# Altium schematic symbol library RPSLib.SchLib: 241 symbols (part 2 of 8)
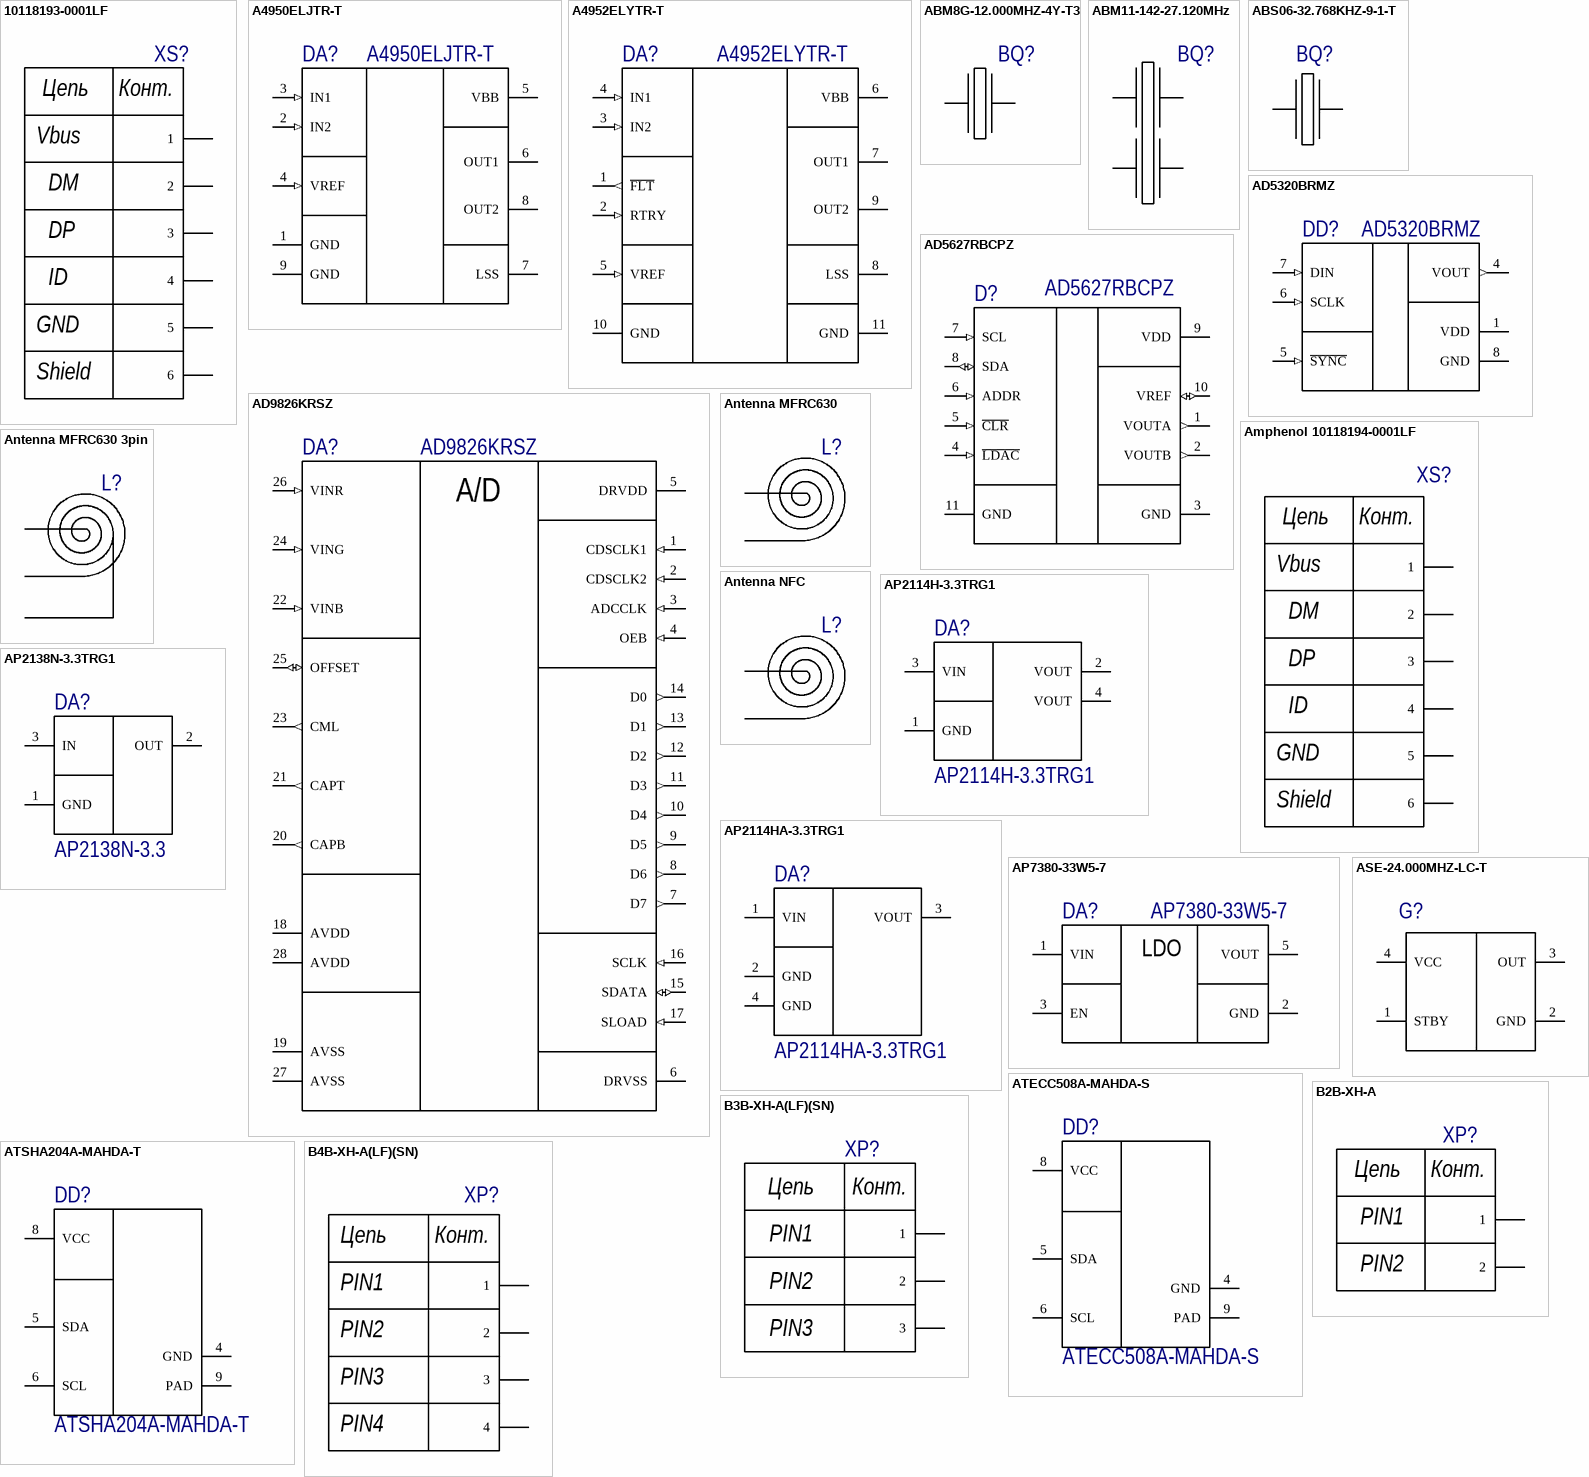
[diagram p26: symbols 10118193-0001LF to B4B-XH-A(LF)(SN)]

## Antenna MFRC630
designator L?, comment Антенна  (value not drawn)  (net tie, no BOM)
footprint MFRC630 Antenna 3x45 (Антенна 3 витка 45 мм)
footprint MFRC630 Antenna 4x45 (Антенна 4 витка 45 мм)
footprint MFRC630 Antenna 5x45 (Антенна 5 витка 45 мм)
footprint MFRC630 Antenna 3x44 circ (Антенна 3 витка 44 мм)
footprint MFRC630 Antenna 4x44 circ (Антенна 4витка 44 мм)
footprint MFRC630 Antenna 5x44 circ (Антенна 5 витков 44 мм)
pins: 1, 2

## Antenna MFRC630 3pin
designator L?, comment Антенна  (value not drawn)  (net tie, no BOM)
footprint MFRC630 Antenna 6x55 circ (Антенна 6 витков 35 мм)
pins: 1, 2, 3

## Antenna NFC
designator L?, comment Антенна  (value not drawn)  (net tie, no BOM)
footprint Antenna 3x40c (Антенна спиральная 3 витка, 40 мм)
footprint Antenna 3x45c (Антенна спиральная 3 витка, 45 мм)
footprint Antenna 4x40c (Антенна спиральная 4 витка, 40 мм)
footprint Antenna 4x45c (Антенна спиральная 4 витка, 45 мм)
footprint Antenna 5x40c (Антенна спиральная 5 витков, 40 мм)
footprint Antenna 5x45c (Антенна спиральная 5 витков, 45 мм)
footprint Antenna 3x40h (Антенна гексагональная 3 витка, 40 мм)
footprint Antenna 3x45h (Антенна гексагональная 3 витка, 45 мм)
footprint Antenna 3x50h (Антенна гексагональная 3 витка, 50 мм)
footprint Antenna 4x40h (Антенна гексагональная 4 витка, 40 мм)
footprint Antenna 4x45h (Антенна гексагональная 4 витка, 45 мм)
footprint Antenna 4x50h (Антенна гексагональная 4 витка, 50 мм)
pins: 1, 2

## AP2114H-3.3TRG1
designator DA?
IC REG LDO 3.3V 1A SOT223; Manufacturer: Diodes; Number of Outputs: 1; Min Input Voltage: 2.5V; Max Input Voltage: 6V; Dropout Voltage: 450mV; Polarity: Positive; Quiescent Current: 65uA; Accuracy: 1.5%; Power Supply Rejection Ratio (PSRR): 65dB; Output Type: Fixed; Supplier 1: Digi-Key; Manufacturer Part Number: AP2114H-3.3TRG1; Stock 1: 59384; Pricing 1: 1=0.36, 10=0.293, 100=0.1994, 500=0.14956, 1000=0.11218 (USD); Mount: Surface Mount; Case/Package: SOT-223; Number of Pins: 3; Weight: 0.000282oz; Min Operating Temperature: -40°C; Max Operating Temperature: 85°C; Packaging: Tape and Reel; Output Voltage: 3.3V; Package Quantity: 4000; Output Current: 1A; Number of Regulators: 1; Max Output Current: 1A; Length: 6.7mm; Height: 1.7mm; Width: 3.7mm; Lead Free: Lead Free; Supplier Part Number 1: AP2114H-3.3TRG1DICT-ND; РКД Наименование: *
footprint SOT230P700X180-4N (SOT223, 4-Leads, Body 6,50x7,00mm (avg), Pitch 2,30mm, IPC Medium Density)
pins: 1 GND, 2 VOUT, 3 VIN, 4 VOUT

## AP2114HA-3.3TRG1
designator DA?
IC REG LDO 3.3V 1A SOT223; Manufacturer: Diodes; Dropout Voltage: 450mV; Number of Regulators: 1; Polarity: Positive; Quiescent Current: 90uA; Accuracy: 1.5%; Min Input Voltage: 2.5V; Max Input Voltage: 6V; Output Type: Fixed; Supplier 1: Digi-Key; Manufacturer Part Number: AP2114HA-3.3TRG1; Stock 1: 1692; Pricing 1: 1=0.36, 10=0.293, 100=0.1994, 500=0.14956, 1000=0.11218 (USD); Mount: Surface Mount; Case/Package: TO-261-4; Number of Pins: 3; Contact Plating: Tin; Min Operating Temperature: -40°C; Max Operating Temperature: 85°C; Packaging: Tape and Reel; Package Quantity: 4000; Output Voltage: 3.3V; Output Current: 1A; Max Output Current: 1A; Number of Outputs: 1; Supplier Part Number 1: AP2114HA-3.3TRG1DICT-ND; РКД Наименование: *
footprint SOT230P700X180-4N (SOT223, 4-Leads, Body 6,50x7,00mm (avg), Pitch 2,30mm, IPC Medium Density)
pins: 1 VIN, 2 GND, 3 VOUT, 4 GND

## AP2138N-3.3TRG1
designator DA?, comment AP2138N-3.3
IC REG LINEAR 3.3V 250MA SOT23-3; Manufacturer: Diodes; Manufacturer Part Number: AP2138N-3.3TRG1; Number of Outputs: 1; Min Input Voltage: 2.5V; Max Input Voltage: 6.6V; Dropout Voltage: 400mV; Quiescent Current: 1uA; Polarity: Positive; Accuracy: 2%; Output Type: Fixed; Supplier 1: Digi-Key; RoHS: Yes; Category: Voltage Regulators - Linear; Stock 1: 158339; Pricing 1: 1=0,36000, 10=0,28800, 25=0,26400, 100=0,17790, 250=0,14728, 500=0,13500, 1000=0,10124 (USD); Mount: Surface Mount; Case/Package: SOT-23-3; Number of Pins: 3; Weight: 0.000282oz; Min Operating Temperature: -40°C; Max Operating Temperature: 85°C; Packaging: Tape and Reel; Output Voltage: 3.3V; Package Quantity: 3000; Output Current: 250mA; Number of Regulators: 1; Max Output Current: 250mA; Length: 3.02mm; Height: 1.3mm; Width: 1.7mm; Lead Free: Lead Free; ComponentLink1URL: https://datasheet.ciiva.com/29568/ap2138-9-29568816.pdf?src-supplier=Digi-Key; ComponentLink1Description: https://datasheet.ciiva.com/29568/ap2138-9-29568816.pdf?src-supplier=Digi-Key; ComponentLink2URL: https://datasheet.ciiva.com/30016/ap2138-9-30016777.pdf?src-supplier=Avnet; ComponentLink2Description: https://datasheet.ciiva.com/30016/ap2138-9-30016777.pdf?src-supplier=Avnet; ComponentLink3URL: https://datasheet.ciiva.com/29569/ap2138-9-29569022.pdf?src-supplier=Digi-Key; ComponentLink3Description: https://datasheet.ciiva.com/29569/ap2138-9-29569022.pdf?src-supplier=Digi-Key; ComponentLink4URL: https://datasheet.ciiva.com/29569/ap2138-9-29569023.pdf?src-supplier=Digi-Key; ComponentLink4Description: https://datasheet.ciiva.com/29569/ap2138-9-29569023.pdf?src-supplier=Digi-Key; Supplier Part Number 1: AP2138N-3.3TRG1DICT-ND
footprint SOT95P232X100-3N (SOT23, 3-Leads, Body 2.92x2.32mm, Pitch 0.95mm, IPC Medium Density)
pins: 1 GND (power), 2 OUT (power), 3 IN (power)

## AP7380-33W5-7
designator DA?
IC REG LINEAR 3.3V 150MA SOT25; Manufacturer: Diodes; Output Type: Fixed; Output Configuration: Positive; Number of Regulators: 1; Max Input Voltage: 24V; Dropout Voltage: 1.5V; Quiescent Current: 3uA; Supplier 1: Digi-Key; Manufacturer Part Number: AP7380-33W5-7; RoHS: No; Stock 1: 13904; Pricing 1: 1=0,42000, 10=0,34400, 25=0,31480, 100=0,21240, 250=0,17576, 500=0,16110, 1000=0,12083 (USD); Mount: Surface Mount; Case/Package: SOT-25; Min Operating Temperature: -40°C; Max Operating Temperature: 125°C; Packaging: Cut Tape; Min Output Voltage: 3.3V; Output Current: 150mA; Max Supply Current: 3uA; ComponentLink1URL: https://www.diodes.com/assets/Datasheets/AP7380.pdf?src-supplier=Digi-Key; ComponentLink1Description: https://www.diodes.com/assets/Datasheets/AP7380.pdf?src-supplier=Digi-Key; Supplier Part Number 1: AP7380-33W5-7DICT-ND
footprint SOT95P285X130-5N (SOT23, 5-Leads, Body 2,95x2,85mm, Pitch 0,95mm, IPC Medium Density)
pins: 1 VIN, 2 GND, 3 EN, 5 VOUT
text: LDO

## ASE-24.000MHZ-LC-T
designator G?  (value not drawn)
XTAL OSC XO 24.0000MHZ CMOS SMD; Manufacturer: Abracon; Frequency: 24MHz; Frequency Stability: 50ppm; Load Capacitance: 15pF; Max Supply Voltage: 2.625V; Min Supply Voltage: 2.375V; Max Supply Current: 13mA; Supplier 1: Digi-Key; Stock 1: 46062; Pricing 1: 1=1.39, 10=1.324, 50=1.2936, 100=1.1088, 500=1.078 (USD); Mount: Surface Mount; Case/Package: SMD/SMT; Number of Pins: 4; Min Operating Temperature: -40°C; Max Operating Temperature: 85°C; Packaging: Tape and Reel; Package Quantity: 1000; Termination: SMD/SMT; Length: 3.2mm; Height: 0.047inch; Width: 0.098inch; Depth: 2.5mm; Radiation Hardening: No; Lead Free: Lead Free; REACH SVHC: No SVHC; ComponentLink1URL: http://www.abracon.com/Oscillators/ASEseries.pdf?src-supplier=Newark; ComponentLink1Description: http://www.abracon.com/Oscillators/ASEseries.pdf?src-supplier=Newark; ComponentLink2URL: https://abracon.com/Support/PackageDrawing/Oscillators/ASE.PDF?src-supplier=Digi-Key; ComponentLink2Description: https://abracon.com/Support/PackageDrawing/Oscillators/ASE.PDF?src-supplier=Digi-Key; ComponentLink3URL: https://www.verical.com/server-webapp/html/getDatasheet?partID=719758&src-supplier=Verical; ComponentLink3Description: https://www.verical.com/server-webapp/html/getDatasheet?partID=719758&src-supplier=Verical; Supplier Part Number 1: 535-9566-1-ND; Manufacturer Part Number: ASE-24.000MHZ-LC-T
footprint ASE Abracon
pins: 1 STBY, 2 GND, 3 OUT, 4 VCC

## ATECC508A-MAHDA-S
designator DD?
CUSTSPEC, ECC 10KB - 8LD UDFN GENERIC TWI, 3K T&R Description CUSTSPEC, ECC 10KB - 8LD UDFN GENERIC TWI, 3K T&R; Manufacturer: Microchip / Atmel; Supplier 1: Digi-Key; Manufacturer Part Number: ATECC508A-MAHDA-S; Stock 1: 31288; Pricing 1: 1=0.73, 25=0.7064 (USD); Mount: Surface Mount; Packaging: Tape and Reel; Lead Free: Lead Free; Supplier Part Number 1: ATECC508A-MAHDA-SCT-ND; РКД Наименование: *
footprint SON50P300X60_HS-9N (SON, 8-Leads, Body 2,00x3,00mm, Pitch 0,50mm, Thermal Pad 1,50x1,30mm, IPC Medium Density)
pins: 4 GND, 5 SDA, 6 SCL, 8 VCC, 9 PAD

## ATSHA204A-MAHDA-T
designator DD?
IC CRYPTO 4.5KB I2C 8UDFN Description IC CRYPTO 4.5KB I2C 8UDFN; Manufacturer: Microchip / Atmel; Interface: I2C,Serial; Access Time: 550ns; Max Frequency: 1MHz; Number of Input Lines: 1; Output Current: 4mA; Output Voltage: 400mV; Max Supply Voltage: 6V; Min Supply Voltage: 2V; Operating Supply Voltage: 5.5V; Supplier 1: Digi-Key; Manufacturer Part Number: ATSHA204A-MAHDA-T; Stock 1: 24073; Pricing 1: 1=0.52, 25=0.4636 (USD); Mount: Surface Mount; Number of Pins: 8; Weight: 0.000335oz; Contact Plating: Gold; Min Operating Temperature: -40°C; Max Operating Temperature: 85°C; Package Quantity: 1; Packaging: Tape and Reel; Density: 4.5Kb; Number of Output Lines: 1; Lead Free: Lead Free; Supplier Part Number 1: ATSHA204A-MAHDA-TCT-ND; РКД Наименование: *
footprint SON50P300X60_HS-9N (SON, 8-Leads, Body 2,00x3,00mm, Pitch 0,50mm, Thermal Pad 1,50x1,30mm, IPC Medium Density)
pins: 4 GND, 5 SDA, 6 SCL, 8 VCC, 9 PAD

## B2B-XH-A
designator XP?  (value not drawn)
Разъем 2; Manufacturer: JST; Manufacturer Part Number: B2B-XH-A(LF)(SN); Number of Positions: 2; Connector Type: Male Pin; Contact Resistance: 20mR; Max Current Rating: 3A; Max Voltage Rating (AC): 250V; Insulation Resistance: 1GR; Pitch: 2.5mm; Wire/Cable Gauge: 22AWG; Supplier 1: Digi-Key; Stock 1: 494280; Pricing 1: 1=0.15, 10=0.141, 100=0.0868, 500=0.07182, 1000=0.06284, 5000=0.05387, 10000=0.05237 (USD); Mount: Through Hole; Contact Plating: Copper,Lead,Tin; Colour: Natural; Contact Material: Brass; Housing Material: Polyamide; Housing Colour: White; Min Operating Temperature: -25°C; Max Operating Temperature: 85°C; Termination: Solder; Number of Rows: 1; Packaging: Bulk; Fastening Type: Detent; Orientation: Straight; Current Rating: 3A; Voltage Rating: 250V; Voltage Rating (AC): 250V; Number of Contacts: 2; Max Voltage Rating (DC): 250V; Length: 7.4mm; Depth: 5.75mm; Lead Pitch: 2.5mm; Lead Free: Lead Free; REACH SVHC: No SVHC; Supplier Part Number 1: 455-2247-ND; РКД Наименование: *
footprint B2B-XH-A (2 pin connector)
pins: 1, 2
text: Цепь; Конт.; PIN1; PIN2

## B3B-XH-A(LF)(SN)
designator XP?  (value not drawn)
JST (JAPAN SOLDERLESS TERMINALS) - B3B-XH-A (LF)(SN) - Wire-To-Board Connector, 2.5 mm, 3 Contacts, Header, XH Series, Through Hole, 1 Rows; Connector Type: Male Pin; Current Rating: 3A; Number of Positions: 3; Voltage Rating (AC): 250V; Contact Resistance: 20mR; Gender: Male; Insulation Resistance: 1GR; Pitch: 2.5mm; Wire/Cable Gauge: 22AWG; Supplier 1: Digi-Key; Manufacturer: JST; Manufacturer Part Number: B3B-XH-A(LF)(SN); RoHS: Yes; Category: Headers and Wire Housings; Stock 1: 38304; Pricing 1: 1=0,190000, 10=0,181000, 100=0,111500, 500=0,092280, 1000=0,080750, 5000=0,069210, 10000=0,067290 (USD); Mount: Through Hole; Contact Plating: Tin,Lead,Copper; Contact Material: Brass; Color: Natural; Housing Color: White; Housing Material: Polyamide; Min Operating Temperature: -25°C; Max Operating Temperature: 85°C; Number of Rows: 1; Packaging: Bulk; Termination: Press-Fit; Orientation: Straight; Max Current Rating: 3A; Voltage Rating: 250V; Fastening Type: Detent; Number of Contacts: 3; Max Voltage Rating (AC): 250V; Max Voltage Rating (DC): 250V; Length: 9.9mm; Lead Pitch: 2.5mm; Depth: 5.75mm; Lead Free: Lead Free; REACH SVHC: No SVHC; ComponentLink1URL: https://datasheet.ciiva.com/26894/getdatasheetpartid-640434-26894454.pdf?src-supplier=Verical; ComponentLink1Description: https://datasheet.ciiva.com/26894/getdatasheetpartid-640434-26894454.pdf?src-supplier=Verical; ComponentLink2URL: https://datasheet.ciiva.com/11746/0900766b8082653f-11746520.pdf?src-supplier=RSComponents; ComponentLink2Description: https://datasheet.ciiva.com/11746/0900766b8082653f-11746520.pdf?src-supplier=RSComponents; ComponentLink3URL: https://datasheet.ciiva.com/26894/getdatasheetpartid-440399-26894778.pdf?src-supplier=Verical; ComponentLink3Description: https://datasheet.ciiva.com/26894/getdatasheetpartid-440399-26894778.pdf?src-supplier=Verical; Supplier Part Number 1: 455-2248-ND
footprint B3B-XH-A (JST 3 pin connector XH)
pins: 1, 2, 3
text: Цепь; Конт.; PIN1; PIN2; PIN3

## B4B-XH-A(LF)(SN)
designator XP?
CONN HEADER VERT 4POS 2.5MM; Manufacturer: JST; Manufacturer Part Number: B4B-XH-A(LF)(SN); Current Rating: 3A; Contact Resistance: 20mR; Voltage Rating (AC): 250V; Number of Positions: 4; Insulation Resistance: 1GR; Connector Type: Male Pin; Gender: Male; Wire/Cable Gauge: 22AWG; Supplier 1: Digi-Key; Stock 1: 97651; Pricing 1: 1=0,210000, 10=0,194000, 100=0,134800, 500=0,114060, 1000=0,093330, 5000=0,082960, 10000=0,075180 (USD); RoHS: Yes; Mount: Through Hole; Contact Material: Brass; Contact Plating: Tin,Copper,Lead; Color: Natural; Housing Color: White; Housing Material: Polyamide; Material: Polyamide; Min Operating Temperature: -25°C; Max Operating Temperature: 85°C; Number of Rows: 1; Max Current Rating: 3A; Package Quantity: 500; Packaging: Bulk; Voltage Rating: 250V; Termination: Press-Fit; Max Voltage Rating (AC): 250V; Max Voltage Rating (DC): 250V; Number of Contacts: 4; Orientation: Straight; Length: 12.4mm; Pitch: 2.5mm; Lead Pitch: 2.5mm; Depth: 5.75mm; REACH SVHC: No SVHC; Lead Free: Lead Free; ComponentLink1URL: https://datasheet.ciiva.com/26894/getdatasheetpartid-455616-26894787.pdf?src-supplier=Verical; ComponentLink1Description: https://datasheet.ciiva.com/26894/getdatasheetpartid-455616-26894787.pdf?src-supplier=Verical; ComponentLink2URL: https://datasheet.ciiva.com/26924/getdatasheetpartid-640571-26924035.pdf?src-supplier=Verical; ComponentLink2Description: https://datasheet.ciiva.com/26924/getdatasheetpartid-640571-26924035.pdf?src-supplier=Verical; ComponentLink3URL: https://datasheet.ciiva.com/16203/b4b-xh-alfsn-16203642.pdf?src-supplier=Future+Electronics; ComponentLink3Description: https://datasheet.ciiva.com/16203/b4b-xh-alfsn-16203642.pdf?src-supplier=Future+Electronics; ComponentLink4URL: https://datasheet.ciiva.com/726/exh-726404.pdf?src-supplier=Digi-Key; ComponentLink4Description: https://datasheet.ciiva.com/726/exh-726404.pdf?src-supplier=Digi-Key; Supplier Part Number 1: 455-2249-ND
footprint B4B-XH-A (JST 4 pin connector)
pins: 1, 2, 3, 4
text: Цепь; Конт.; PIN1; PIN2; PIN3; PIN4

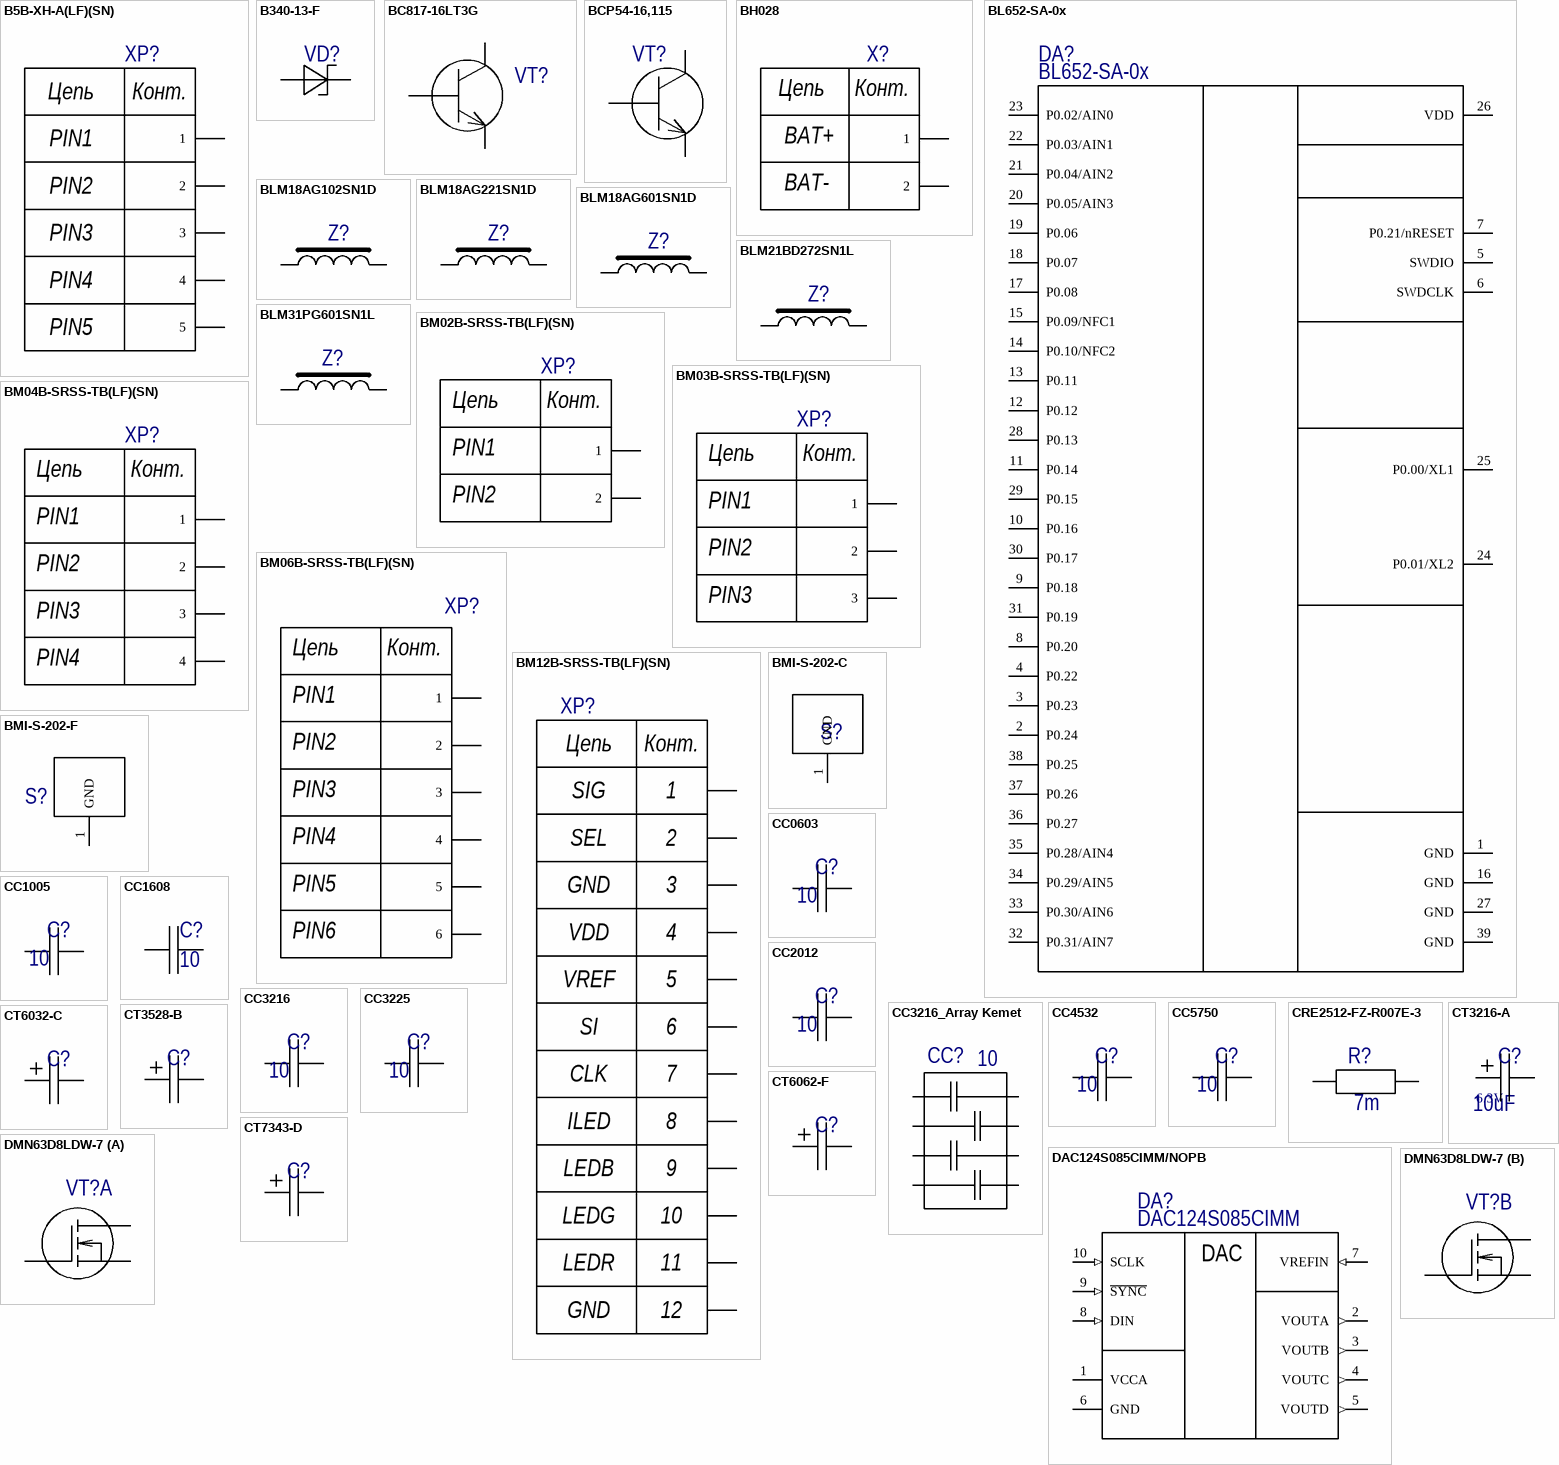
[diagram p2: symbols B5B-XH-A(LF)(SN) to DMN63D8LDW-7]

## B5B-XH-A(LF)(SN)
designator XP?  (value not drawn)
Conn Shrouded Header HDR 5 POS 2.5mm Solder ST Thru-Hole Box; Manufacturer: JST; Current Rating: 3A; Number of Positions: 5; Insulation Resistance: 1GR; Max Voltage Rating (AC): 250V; Gender: Male; Connector Type: Male Pin; Contact Resistance: 20mR; Wire/Cable Gauge: 22AWG; Supplier 1: Digi-Key; Manufacturer Part Number: B5B-XH-A(LF)(SN); RoHS: Yes; Category: Headers and Wire Housings; Stock 1: 87563; Pricing 1: 1=0,250000, 10=0,237000, 100=0,164400, 500=0,139140, 1000=0,113830, 5000=0,101190, 10000=0,091700 (USD); Mount: Through Hole; Contact Material: Brass; Housing Color: White; Housing Material: Polyamide; Color: Natural; Contact Plating: Tin,Lead,Copper; Min Operating Temperature: -25°C; Max Operating Temperature: 85°C; Termination: Press-Fit; Fastening Type: Detent; Number of Contacts: 5; Orientation: Straight; Voltage Rating (AC): 250V; Number of Rows: 1; Packaging: Bulk; Voltage Rating: 250V; Max Current Rating: 3A; Length: 14.9mm; Pitch: 2.5mm; Depth: 5.75mm; Lead Pitch: 2.5mm; REACH SVHC: No SVHC; Lead Free: Lead Free; ComponentLink1URL: https://datasheet.ciiva.com/11746/0900766b8082f55f-11746654.pdf?src-supplier=RSComponents; ComponentLink1Description: https://datasheet.ciiva.com/11746/0900766b8082f55f-11746654.pdf?src-supplier=RSComponents; ComponentLink2URL: https://datasheet.ciiva.com/26894/getdatasheetpartid-455618-26894798.pdf?src-supplier=Verical; ComponentLink2Description: https://datasheet.ciiva.com/26894/getdatasheetpartid-455618-26894798.pdf?src-supplier=Verical; ComponentLink3URL: https://datasheet.ciiva.com/26894/getdatasheetpartid-640991-26894479.pdf?src-supplier=Verical; ComponentLink3Description: https://datasheet.ciiva.com/26894/getdatasheetpartid-640991-26894479.pdf?src-supplier=Verical; ComponentLink4URL: https://datasheet.ciiva.com/724/exh-724390.pdf?src-supplier=Digi-Key; ComponentLink4Description: https://datasheet.ciiva.com/724/exh-724390.pdf?src-supplier=Digi-Key; ComponentLink5URL: https://datasheet.ciiva.com/20207/523653-20207174.pdf?src-supplier=Rapid+Electronics; ComponentLink5Description: https://datasheet.ciiva.com/20207/523653-20207174.pdf?src-supplier=Rapid+Electronics; ComponentLink6URL: https://datasheet.ciiva.com/8052/1684882-8052063.pdf?src-supplier=Element14; ComponentLink6Description: https://datasheet.ciiva.com/8052/1684882-8052063.pdf?src-supplier=Element14; Supplier Part Number 1: 455-2270-ND
footprint B5B-XH-A (JST 5 pin connector XH)
pins: 1, 2, 3, 4, 5
text: Цепь; Конт.; PIN1; PIN2; PIN3; PIN4; PIN5

## B340-13-F
designator VD?  (value not drawn)
Diode Schottky 40V 3A 2-Pin SMC T/R; Manufacturer: Diodes; Element Configuration: Single; Peak Reverse Current: 500uA; Forward Voltage: 500mV; Max Forward Surge Current (Ifsm): 100A; Polarity: Standard; Capacitance: 250pF; Supplier 1: Digi-Key; Manufacturer Part Number: B340-13-F; RoHS: Yes; Category: Rectifier Diodes; Stock 1: 12759; Pricing 1: 1=0,36000, 10=0,29300, 25=0,26840, 100=0,16850, 250=0,16660, 500=0,15600, 1000=0,10608 (USD); Mount: Surface Mount; Case/Package: SMC; Number of Pins: 2; Weight: 0.007408oz; Min Operating Temperature: -55°C; Max Operating Temperature: 125°C; Forward Current: 3A; Max Repetitive Reverse Voltage (Vrrm): 40V; Packaging: Tape and Reel; Peak Non-Repetitive Surge Current: 100A; Package Quantity: 3000; Average Rectified Current: 3A; Voltage Rating (DC): 40V; Current Rating: 3A; Output Current: 3A; Max Reverse Voltage (DC): 40V; Termination: SMD/SMT; Current: 3A; Voltage: 40V; Length: 7.11mm; Height: 2.5mm; Width: 6.22mm; Radiation Hardening: No; Lead Free: Lead Free; REACH SVHC: No SVHC; ComponentLink1URL: https://datasheet.ciiva.com/914/ds30923-914112.pdf?src-supplier=Digi-Key; ComponentLink1Description: https://datasheet.ciiva.com/914/ds30923-914112.pdf?src-supplier=Digi-Key; ComponentLink2URL: https://datasheet.ciiva.com/26949/getdatasheetpartid-116064-26949351.pdf?src-supplier=Verical; ComponentLink2Description: https://datasheet.ciiva.com/26949/getdatasheetpartid-116064-26949351.pdf?src-supplier=Verical; ComponentLink3URL: https://datasheet.ciiva.com/16291/ds13005-16291142.pdf?src-supplier=Future+Electronics; ComponentLink3Description: https://datasheet.ciiva.com/16291/ds13005-16291142.pdf?src-supplier=Future+Electronics; Supplier Part Number 1: B340-FDICT-ND
footprint DIOM6959X25N_SMC (Molded Diode, 2-Leads, Body 6,86x5,91mm, IPC Medium Density)
pins: 1 C, 2 A

## BC817-16LT3G
designator VT?  (value not drawn)
TRANS NPN 45V 0.5A SOT-23; Manufacturer: ON Semiconductor; hFE Min: 100; Max Power Dissipation: 300mW; Element Configuration: Single; Max Collector Current: 500mA; Transition Frequency: 100MHz; Collector Base Voltage (VCBO): 50V; Emitter Base Voltage (VEBO): 5V; Collector Emitter Saturation Voltage: 700mV; Number of Elements: 1; Supplier 1: Digi-Key; Manufacturer Part Number: BC817-16LT3G; RoHS: Yes; Category: BJTs; Stock 1: 34572; Pricing 1: 1=0,14000, 10=0,13000, 25=0,12360, 100=0,05450, 250=0,05228, 500=0,04276, 1000=0,02970, 2500=0,02594, 5000=0,02327 (USD); Case/Package: SOT-23-3; Number of Pins: 3; Contact Plating: Tin,Matte; Min Operating Temperature: -55°C; Max Operating Temperature: 150°C; Package Quantity: 10000; Collector Emitter Voltage (VCEO): 45V; Collector Emitter Breakdown Voltage: 45V; Polarity: NPN; Packaging: Tape and Reel; Power Dissipation: 300mW; Frequency: 100MHz; Gain Bandwidth Product: 100MHz; Max Breakdown Voltage: 45V; Radiation Hardening: No; Lead Free: Lead Free; Halogen Free: Halogen Free; ComponentLink1URL: https://datasheet.ciiva.com/15139/getdatasheetpartid-84401-15139109.pdf?src-supplier=Verical; ComponentLink1Description: https://datasheet.ciiva.com/15139/getdatasheetpartid-84401-15139109.pdf?src-supplier=Verical; ComponentLink2URL: https://datasheet.ciiva.com/26115/bc817-16lt1-d-26115598.pdf?src-supplier=Avnet+Europe; ComponentLink2Description: https://datasheet.ciiva.com/26115/bc817-16lt1-d-26115598.pdf?src-supplier=Avnet+Europe; ComponentLink3URL: https://datasheet.ciiva.com/980/bc817-16lt1-d-980715.pdf?src-supplier=Digi-Key; ComponentLink3Description: https://datasheet.ciiva.com/980/bc817-16lt1-d-980715.pdf?src-supplier=Digi-Key; ComponentLink4URL: https://datasheet.ciiva.com/11204/bc817-16lt1-d-11204335.pdf?src-supplier=Avnet; ComponentLink4Description: https://datasheet.ciiva.com/11204/bc817-16lt1-d-11204335.pdf?src-supplier=Avnet; Supplier Part Number 1: BC817-16LT3GOSCT-ND
footprint SOT95P232X100-3N (SOT23, 3-Leads, Body 2.92x2.32mm, Pitch 0.95mm, IPC Medium Density)
pins: 1 B, 2 E, 3 C

## BCP54-16,115
designator VT?  (value not drawn)
NEXPERIA - BCP54-16,115 - TRANSISTOR, NPN, SOT-223; Supplier 1: Digi-Key; Manufacturer: Nexperia; Manufacturer Part Number: BCP54-16,115; RoHS: No; Stock 1: 4494; Pricing 1: 1=0,45000, 10=0,33600, 25=0,30240, 100=0,15950, 250=0,15784, 500=0,14136 (USD); ComponentLink1URL: http://www.farnell.com/datasheets/1499221.pdf?src-supplier=Farnell; ComponentLink1Description: http://www.farnell.com/datasheets/1499221.pdf?src-supplier=Farnell; Supplier Part Number 1: 1727-4314-1-ND
footprint SOT230P700X180-4N PZT3904 (SOT223, 4-Leads, Body 6,50x7,00mm (avg), Pitch 2,30mm, IPC Medium Density)
pins: 1 B, 2 C, 3 E

## BH028
designator X?  (value not drawn)
Держатель батареи; Manufacturer: JST; Manufacturer Part Number: B2B-XH-A(LF)(SN); Number of Positions: 2; Connector Type: Male Pin; Contact Resistance: 20mR; Max Current Rating: 3A; Max Voltage Rating (AC): 250V; Insulation Resistance: 1GR; Pitch: 2.5mm; Wire/Cable Gauge: 22AWG; Supplier 1: Digi-Key; Stock 1: 494280; Pricing 1: 1=0.15, 10=0.141, 100=0.0868, 500=0.07182, 1000=0.06284, 5000=0.05387, 10000=0.05237 (USD); Mount: Through Hole; Contact Plating: Copper,Lead,Tin; Colour: Natural; Contact Material: Brass; Housing Material: Polyamide; Housing Colour: White; Min Operating Temperature: -25°C; Max Operating Temperature: 85°C; Termination: Solder; Number of Rows: 1; Packaging: Bulk; Fastening Type: Detent; Orientation: Straight; Current Rating: 3A; Voltage Rating: 250V; Voltage Rating (AC): 250V; Number of Contacts: 2; Max Voltage Rating (DC): 250V; Length: 7.4mm; Depth: 5.75mm; Lead Pitch: 2.5mm; Lead Free: Lead Free; REACH SVHC: No SVHC; Supplier Part Number 1: 455-2247-ND; РКД Наименование: *
footprint BH028 (Держатель батареи)
pins: 1, 2
text: Цепь; Конт.; BAT+; BAT-

## BL652-SA-0x
designator DA?
РКД Наименование: *
footprint BL652-Sx
pins: 1 GND, 2 P0.24, 3 P0.23, 4 P0.22, 5 SWDIO, 6 SWDCLK, 7 P0.21/nRESET, 8 P0.20, 9 P0.18, 10 P0.16, 11 P0.14, 12 P0.12, 13 P0.11, 14 P0.10/NFC2, 15 P0.09/NFC1, 16 GND, 17 P0.08, 18 P0.07, 19 P0.06, 20 P0.05/AIN3, 21 P0.04/AIN2, 22 P0.03/AIN1, 23 P0.02/AIN0, 24 P0.01/XL2, 25 P0.00/XL1, 26 VDD, 27 GND, 28 P0.13, 29 P0.15, 30 P0.17, 31 P0.19, 32 P0.31/AIN7, 33 P0.30/AIN6, 34 P0.29/AIN5, 35 P0.28/AIN4, 36 P0.27, 37 P0.26, 38 P0.25, 39 GND

## BLM18AG102SN1D
designator Z?  (value not drawn)
Ferrite Beads Multi-Layer 1KOhm 25% 100MHz 400mA 500mOhm DCR 0603 Paper T/R; Manufacturer: Murata; Impedance: 1kR; DC Resistance (DCR): 500mR; Number of Lines: 1; Shielding: Unshielded; Supplier 1: Digi-Key; Manufacturer Part Number: BLM18AG102SN1D; RoHS: Yes; Category: Ferrite Beads and Chips; Stock 1: 301153; Pricing 1: 1=0,10000, 10=0,07900, 25=0,07200, 50=0,06480, 100=0,04760, 250=0,03460, 500=0,03170, 1000=0,02738 (USD); Case/Package: 0603; Number of Pins: 2; Core Material: Ferrite; Case Code (Metric): 1608; Case Code (Imperial): 0603; Material: Steel,Ferrite; Min Operating Temperature: -55°C; Max Operating Temperature: 125°C; Tolerance: 25%; Max DC Current: 400mA; Package Quantity: 1; Resistance: 500mR; Packaging: Tape and Reel; Current Rating: 400mA; Max Current Rating: 400mA; Termination: SMD/SMT; Test Frequency: 100MHz; DC Current: 400mA; Military Standard: Not; Frequency: 100MHz; Number of Circuits: 1; Length: 1.6mm; Height: 0.8mm; Width: 0.8mm; Depth: 0.8mm; Radiation Hardening: No; REACH SVHC: No SVHC; Lead Free: Lead Free; ComponentLink1URL: https://datasheet.ciiva.com/1012/l0110s0100blm18a-1012016.pdf?src-supplier=Digi-Key; ComponentLink1Description: https://datasheet.ciiva.com/1012/l0110s0100blm18a-1012016.pdf?src-supplier=Digi-Key; ComponentLink2URL: https://datasheet.ciiva.com/5709/1756147-5709056.pdf?src-supplier=Farnell; ComponentLink2Description: https://datasheet.ciiva.com/5709/1756147-5709056.pdf?src-supplier=Farnell; ComponentLink3URL: https://datasheet.ciiva.com/11795/0900766b80032ea2-11795437.pdf?src-supplier=RSComponents; ComponentLink3Description: https://datasheet.ciiva.com/11795/0900766b80032ea2-11795437.pdf?src-supplier=RSComponents; ComponentLink4URL: https://datasheet.ciiva.com/41449/001172220-da-01-en-drossel-0603-1000r-1-6x0-8mm-4000st-41449508.pdf?src-supplier=Conrad; ComponentLink4Description: https://datasheet.ciiva.com/41449/001172220-da-01-en-drossel-0603-1000r-1-6x0-8mm-4000st-41449508.pdf?src-supplier=Conrad; ComponentLink5URL: https://datasheet.ciiva.com/29347/442253-da-01-en-chip-drossel-0603-1000r-400ma-1-6x0-8mm-29347887.pdf?src-supplier=Conrad; ComponentLink5Description: https://datasheet.ciiva.com/29347/442253-da-01-en-chip-drossel-0603-1000r-400ma-1-6x0-8mm-29347887.pdf?src-supplier=Conrad; ComponentLink6URL: https://datasheet.ciiva.com/1466/1756147-1466919.pdf?src-supplier=Element14; ComponentLink6Description: https://datasheet.ciiva.com/1466/1756147-1466919.pdf?src-supplier=Element14; ComponentLink7URL: https://datasheet.ciiva.com/25903/l0110s0100blm18a-25903479.pdf?src-supplier=Avnet+Europe; ComponentLink7Description: https://datasheet.ciiva.com/25903/l0110s0100blm18a-25903479.pdf?src-supplier=Avnet+Europe; ComponentLink8URL: https://datasheet.ciiva.com/1466/1756147-1466920.pdf?src-supplier=Element14; ComponentLink8Description: https://datasheet.ciiva.com/1466/1756147-1466920.pdf?src-supplier=Element14; ComponentLink9URL: https://datasheet.ciiva.com/16199/l0110s0100blm18a-16199225.pdf?src-supplier=Future+Electronics; ComponentLink9Description: https://datasheet.ciiva.com/16199/l0110s0100blm18a-16199225.pdf?src-supplier=Future+Electronics; ComponentLink10URL: https://datasheet.ciiva.com/8510/l0110s0100blm18a-8510154.pdf?src-supplier=Avnet; ComponentLink10Description: https://datasheet.ciiva.com/8510/l0110s0100blm18a-8510154.pdf?src-supplier=Avnet; ComponentLink11URL: https://datasheet.ciiva.com/1012/l0110s0100blm18a-1012014.pdf?src-supplier=Digi-Key; ComponentLink11Description: https://datasheet.ciiva.com/1012/l0110s0100blm18a-1012014.pdf?src-supplier=Digi-Key; ComponentLink12URL: https://datasheet.ciiva.com/1012/l0110s0100blm18a-1012015.pdf?src-supplier=Digi-Key; ComponentLink12Description: https://datasheet.ciiva.com/1012/l0110s0100blm18a-1012015.pdf?src-supplier=Digi-Key; Supplier Part Number 1: 490-1015-1-ND
footprint INDC1608X08N_BLM18AG (Chip Inductor, 2-Leads, Body 1,60x0,80mm, IPC Medium Density)
pins: 1, 2

## BLM18AG221SN1D
designator Z?  (value not drawn)
FERRITE CHIP 220 OHM 500MA 0603; Manufacturer: Murata; Impedance: 220R; Tolerance: 25%; DC Resistance (DCR): 250mR; Number of Lines: 1; Test Frequency: 100MHz; Shielding: Unshielded; РКД Наименование: BLM18AG221SN1D - EMI Filter, 220 Ohm, 1608M; Supplier 1: Digi-Key; Manufacturer Part Number: BLM18AG221SN1D; Stock 1: 104903; Pricing 1: 1=0.1, 10=0.079, 25=0.072, 50=0.0648, 100=0.0476, 250=0.0346, 500=0.0317, 1000=0.02738 (USD); Case/Package: 0603; Number of Pins: 2; Core Material: Ferrite; Case Code (Metric): 1608; Case Code (Imperial): 0603; Material: Steel; Min Operating Temperature: -55°C; Max Operating Temperature: 125°C; Max DC Current: 500mA; Package Quantity: 1; Max Current Rating: 500mA; Packaging: Tape and Reel; Current Rating: 500mA; Termination: SMD/SMT; DC Current: 500mA; Military Standard: Not; Frequency: 100MHz; Number of Circuits: 1; Length: 1.6mm; Height: 0.8mm; Width: 0.8mm; Depth: 0.8mm; Radiation Hardening: No; REACH SVHC: No SVHC; Lead Free: Lead Free; Supplier Part Number 1: 490-1012-1-ND
footprint INDC1608X06N_BLM18SN (Chip Inductor, 2-Leads, Body 1,60x0,80mm, IPC Medium Density)
pins: 1, 2

## BLM18AG601SN1D
designator Z?  (value not drawn)
FERRITE CHIP 600 OHM 500MA 0603; Manufacturer: Murata; Tolerance: 25%; Impedance: 600R; Number of Lines: 1; DC Resistance (DCR): 380mR; Test Frequency: 100MHz; Shielding: Unshielded; Supplier 1: Digi-Key; Manufacturer Part Number: BLM18AG601SN1D; Stock 1: 1068043; Pricing 1: 1=0.1, 10=0.079, 25=0.072, 50=0.0648, 100=0.0476, 250=0.0346, 500=0.0317, 1000=0.02738 (USD); Case/Package: 0603; Number of Pins: 2; Weight: 7.1E-05oz; Core Material: Ferrite; Case Code (Metric): 1608; Case Code (Imperial): 0603; Material: Ferrite,Steel; Min Operating Temperature: -55°C; Max Operating Temperature: 125°C; Package Quantity: 1; Max Current Rating: 500mA; Packaging: Tape and Reel; Current Rating: 500mA; Termination: SMD/SMT; Max DC Current: 500mA; DC Current: 500mA; Military Standard: Not; Frequency: 100MHz; Number of Circuits: 1; Length: 1.6mm; Height: 0.8mm; Width: 0.8mm; Depth: 0.8mm; Radiation Hardening: No; REACH SVHC: No SVHC; Lead Free: Lead Free; ComponentLink1URL: https://www.murata.com/en-us/products/productdata/8796738650142/ENFA0003.pdf; ComponentLink1Description: https://www.murata.com/en-us/products/productdata/8796738650142/ENFA0003.pdf; ComponentLink2URL: http://www.farnell.com/datasheets/1756147.pdf; ComponentLink2Description: http://www.farnell.com/datasheets/1756147.pdf; ComponentLink3URL: http://www.jameco.com/Jameco/Products/ProdDS/1844766.pdf; ComponentLink3Description: http://www.jameco.com/Jameco/Products/ProdDS/1844766.pdf; ComponentLink4URL: http://search.murata.co.jp/Ceramy/image/img/PDF/ENG/L0110S0100BLM18A.pdf; ComponentLink4Description: http://search.murata.co.jp/Ceramy/image/img/PDF/ENG/L0110S0100BLM18A.pdf; ComponentLink5URL: http://www.produktinfo.conrad.com/datenblaetter/425000-449999/442309-da-01-en-CHIP_DROSSEL_0603_600R_500MA_1_6X0_8MM.pdf; ComponentLink5Description: http://www.produktinfo.conrad.com/datenblaetter/425000-449999/442309-da-01-en-CHIP_DROSSEL_0603_600R_500MA_1_6X0_8MM.pdf; ComponentLink6URL: http://www.produktinfo.conrad.com/datenblaetter/1100000-1199999/001172228-da-01-en-DROSSEL_0603_600R_1_6X0_8MM_4000ST.pdf; ComponentLink6Description: http://www.produktinfo.conrad.com/datenblaetter/1100000-1199999/001172228-da-01-en-DROSSEL_0603_600R_1_6X0_8MM_4000ST.pdf; Supplier Part Number 1: 490-1014-1-ND
footprint INDC1608X08N_BLM18AG (Chip Inductor, 2-Leads, Body 1,60x0,80mm, IPC Medium Density)
pins: 1, 2

## BLM21BD272SN1L
designator Z?  (value not drawn)
Murata Ferrite Bead (Chip Bead), 2 x 1.25 x 1.25mm (0805); Impedance: 2.7kR; Tolerance: 25%; DC Resistance (DCR): 800mR; Max DC Current: 200mA; Number of Lines: 1; Test Frequency: 100MHz; Shielding: Unshielded; Supplier 1: Digi-Key; Manufacturer: Murata; Manufacturer Part Number: BLM21BD272SN1L; Stock 1: 74363; Pricing 1: 1=0,19000, 10=0,14600, 25=0,12040, 50=0,10400, 100=0,09360, 250=0,07900, 500=0,07068, 1000=0,06029 (USD); RoHS: Yes; Case/Package: 0805; Number of Pins: 2; Weight: 0.000194oz; Core Material: Ferrite; Case Code (Metric): 2012; Case Code (Imperial): 0805; Material: Steel,Ferrite; Min Operating Temperature: -55°C; Max Operating Temperature: 125°C; Package Quantity: 1; Max Current Rating: 200mA; Packaging: Tape and Reel; Current Rating: 200mA; Termination: SMD/SMT; Frequency: 100MHz; Length: 2mm; Height: 0.85mm; Width: 1.25mm; Depth: 1.25mm; REACH SVHC: No SVHC; Lead Free: Lead Free; ComponentLink1URL: https://datasheet.ciiva.com/34302/1845283-34302806.pdf?src-supplier=Jameco; ComponentLink1Description: https://datasheet.ciiva.com/34302/1845283-34302806.pdf?src-supplier=Jameco; ComponentLink2URL: https://datasheet.ciiva.com/11795/0900766b81275df9-11795726.pdf?src-supplier=RSComponents; ComponentLink2Description: https://datasheet.ciiva.com/11795/0900766b81275df9-11795726.pdf?src-supplier=RSComponents; ComponentLink3URL: https://datasheet.ciiva.com/41449/001171735-da-01-en-chip-drossel0805-2700r-200ma-2-0x1-25mm-41449365.pdf?src-supplier=Conrad; ComponentLink3Description: https://datasheet.ciiva.com/41449/001171735-da-01-en-chip-drossel0805-2700r-200ma-2-0x1-25mm-41449365.pdf?src-supplier=Conrad; ComponentLink4URL: https://datasheet.ciiva.com/41449/001172353-da-01-en-drossel-0805-2700r-2-0x1-25mm-3000st-41449595.pdf?src-supplier=Conrad; ComponentLink4Description: https://datasheet.ciiva.com/41449/001172353-da-01-en-drossel-0805-2700r-2-0x1-25mm-3000st-41449595.pdf?src-supplier=Conrad; ComponentLink5URL: https://datasheet.ciiva.com/1012/l0110s0100blm21b-1012866.pdf?src-supplier=Digi-Key; ComponentLink5Description: https://datasheet.ciiva.com/1012/l0110s0100blm21b-1012866.pdf?src-supplier=Digi-Key; ComponentLink6URL: https://datasheet.ciiva.com/1012/l0110s0100blm21b-1012867.pdf?src-supplier=Digi-Key; ComponentLink6Description: https://datasheet.ciiva.com/1012/l0110s0100blm21b-1012867.pdf?src-supplier=Digi-Key; ComponentLink7URL: https://datasheet.ciiva.com/1012/l0110s0100blm21b-1012868.pdf?src-supplier=Digi-Key; ComponentLink7Description: https://datasheet.ciiva.com/1012/l0110s0100blm21b-1012868.pdf?src-supplier=Digi-Key; ComponentLink8URL: https://datasheet.ciiva.com/3081/l0110s0100blm21b-3081652.pdf?src-supplier=Avnet; ComponentLink8Description: https://datasheet.ciiva.com/3081/l0110s0100blm21b-3081652.pdf?src-supplier=Avnet; ComponentLink9URL: https://datasheet.ciiva.com/14122/amblm21b-data-e-14122853.pdf?src-supplier=Distrelec; ComponentLink9Description: https://datasheet.ciiva.com/14122/amblm21b-data-e-14122853.pdf?src-supplier=Distrelec; ComponentLink10URL: https://datasheet.ciiva.com/8021/5159-8021579.pdf?src-supplier=Element14; ComponentLink10Description: https://datasheet.ciiva.com/8021/5159-8021579.pdf?src-supplier=Element14; ComponentLink11URL: https://datasheet.ciiva.com/17246/l0110s0100blm21b-17246955.pdf?src-supplier=Avnet+Europe; ComponentLink11Description: https://datasheet.ciiva.com/17246/l0110s0100blm21b-17246955.pdf?src-supplier=Avnet+Europe; ComponentLink12URL: https://datasheet.ciiva.com/8021/5159-8021581.pdf?src-supplier=Element14; ComponentLink12Description: https://datasheet.ciiva.com/8021/5159-8021581.pdf?src-supplier=Element14; Supplier Part Number 1: 490-1051-1-ND
footprint INDC2012X14N_BLM21BD272SN1 (Chip Inductor, 2-Leads, Body 2,00x1,25mm, IPC Medium Density)
pins: 1, 2

## BLM31PG601SN1L
designator Z?  (value not drawn)
MURATA - BLM31PG601SN1L - FERRITE BEAD, 600R, 1.5A, 1206; Tolerance: 25%; Number of Lines: 1; DC Resistance (DCR): 80mR; Test Frequency: 100MHz; Shielding: Unshielded; Supplier 1: Digi-Key; Manufacturer: Murata; Manufacturer Part Number: BLM31PG601SN1L; RoHS: Yes; Category: Inductors; Stock 1: 164932; Pricing 1: 1=0,31000, 10=0,24100, 25=0,19920, 50=0,17180, 100=0,15470, 250=0,13064, 500=0,11688, 1000=0,09969 (USD); Case/Package: 1206; Number of Pins: 2; Weight: 0.000353oz; Core Material: Ferrite; Case Code (Metric): 3216; Case Code (Imperial): 1206; Material: Steel,Ferrite; Contact Plating: Tin,Matte; Min Operating Temperature: -55°C; Max Operating Temperature: 125°C; Impedance: 600R; Package Quantity: 1; Max Current Rating: 1.5A; Packaging: Tape and Reel; Current Rating: 1.5A; Termination: SMD/SMT; Max DC Current: 1.5A; DC Current: 1.5A; Military Standard: Not; Frequency: 100MHz; Length: 3.2mm; Height: 1.1mm; Width: 1.6mm; Depth: 1.6mm; Radiation Hardening: No; Lead Free: Lead Free; ComponentLink1URL: https://datasheet.ciiva.com/11799/0900766b811b5866-11799751.pdf?src-supplier=RSComponents; ComponentLink1Description: https://datasheet.ciiva.com/11799/0900766b811b5866-11799751.pdf?src-supplier=RSComponents; ComponentLink2URL: https://datasheet.ciiva.com/41449/001172387-da-01-en-drossel-1206-600r-3-2x1-60mm-3000st-41449555.pdf?src-supplier=Conrad; ComponentLink2Description: https://datasheet.ciiva.com/41449/001172387-da-01-en-drossel-1206-600r-3-2x1-60mm-3000st-41449555.pdf?src-supplier=Conrad; ComponentLink3URL: https://datasheet.ciiva.com/29348/442583-da-01-en-chip-drossel-1206-600r-1500ma-3-2x1-60mm-29348020.pdf?src-supplier=Conrad; ComponentLink3Description: https://datasheet.ciiva.com/29348/442583-da-01-en-chip-drossel-1206-600r-1500ma-3-2x1-60mm-29348020.pdf?src-supplier=Conrad; ComponentLink4URL: https://datasheet.ciiva.com/41449/001172388-da-01-en-drossel-1206-600r-3-2x1-60mm-3000st-41449558.pdf?src-supplier=Conrad; ComponentLink4Description: https://datasheet.ciiva.com/41449/001172388-da-01-en-drossel-1206-600r-3-2x1-60mm-3000st-41449558.pdf?src-supplier=Conrad; ComponentLink5URL: https://datasheet.ciiva.com/1012/l0110s0100blm31p-1012994.pdf?src-supplier=Digi-Key; ComponentLink5Description: https://datasheet.ciiva.com/1012/l0110s0100blm31p-1012994.pdf?src-supplier=Digi-Key; ComponentLink6URL: https://datasheet.ciiva.com/1012/l0110s0100blm31p-1012995.pdf?src-supplier=Digi-Key; ComponentLink6Description: https://datasheet.ciiva.com/1012/l0110s0100blm31p-1012995.pdf?src-supplier=Digi-Key; ComponentLink7URL: https://datasheet.ciiva.com/1012/l0110s0100blm31p-1012996.pdf?src-supplier=Digi-Key; ComponentLink7Description: https://datasheet.ciiva.com/1012/l0110s0100blm31p-1012996.pdf?src-supplier=Digi-Key; ComponentLink8URL: https://datasheet.ciiva.com/3081/l0110s0100blm31p-3081668.pdf?src-supplier=Avnet; ComponentLink8Description: https://datasheet.ciiva.com/3081/l0110s0100blm31p-3081668.pdf?src-supplier=Avnet; ComponentLink9URL: https://datasheet.ciiva.com/16220/l0110s0100blm31p-16220677.pdf?src-supplier=Future+Electronics; ComponentLink9Description: https://datasheet.ciiva.com/16220/l0110s0100blm31p-16220677.pdf?src-supplier=Future+Electronics; ComponentLink10URL: https://datasheet.ciiva.com/14187/apblm31p-data-e-14187399.pdf?src-supplier=Distrelec; ComponentLink10Description: https://datasheet.ciiva.com/14187/apblm31p-data-e-14187399.pdf?src-supplier=Distrelec; Supplier Part Number 1: 490-1057-1-ND
footprint INDC3216X11N_BLM31PG (Chip Inductor, 2-Leads, Body 3,20x1,60mm, IPC Medium Density)
pins: 1, 2

## BM02B-SRSS-TB(LF)(SN)
designator XP?, comment BM02B-SRSS-TBT(LF)(SN)  (value not drawn)
CONN WIRE HDR 2POS 1MM STSMD; Manufacturer: JST; Manufacturer Part Number: BM02B-SRSS-TB(LF)(SN); Number of Positions: 2; Connector Type: Male Pin; Current Rating: 1A; Contact Resistance: 20mR; Voltage Rating (AC): 50V; Insulation Resistance: 100MR; Gender: Male; Pitch: 0.039inch; ComponentLink1URL: https://datasheet.ciiva.com/26894/getdatasheetpartid-714049-26894825.pdf?src-supplier=Verical; ComponentLink1Description: https://datasheet.ciiva.com/26894/getdatasheetpartid-714049-26894825.pdf?src-supplier=Verical; ComponentLink2URL: https://datasheet.ciiva.com/26924/getdatasheetpartid-707004-26924042.pdf?src-supplier=Verical; ComponentLink2Description: https://datasheet.ciiva.com/26924/getdatasheetpartid-707004-26924042.pdf?src-supplier=Verical; ComponentLink3URL: https://datasheet.ciiva.com/726/esr-726594.pdf?src-supplier=Digi-Key; ComponentLink3Description: https://datasheet.ciiva.com/726/esr-726594.pdf?src-supplier=Digi-Key; ComponentLink4URL: https://datasheet.ciiva.com/16379/esr-16379596.pdf?src-supplier=Future+Electronics; ComponentLink4Description: https://datasheet.ciiva.com/16379/esr-16379596.pdf?src-supplier=Future+Electronics; Supplier 1: Digi-Key; Stock 1: 162312; Pricing 1: 1=0,46000, 10=0,43000, 100=0,32930, 500=0,28638 (USD); RoHS: Yes; Mount: Surface Mount; Contact Plating: Tin,Lead; Contact Material: Copper Alloy; Color: Natural; Housing Color: Natural; Housing Material: Nylon; Material: Polyamide; Min Operating Temperature: -25°C; Max Operating Temperature: 85°C; Number of Rows: 1; Termination: Solder; Packaging: Tape and Reel; Number of Contacts: 2; Lead Pitch: 1mm; Lead Free: Lead Free; REACH SVHC: No SVHC; Flammability Rating: UL94 V-0; ComponentLink5URL: https://datasheet.ciiva.com/8052/91630-8052077.pdf?src-supplier=Element14; ComponentLink5Description: https://datasheet.ciiva.com/8052/91630-8052077.pdf?src-supplier=Element14; ComponentLink6URL: https://datasheet.ciiva.com/16351/bm02b-srss-tb-lf-sn-16351949.pdf?src-supplier=Future+Electronics; ComponentLink6Description: https://datasheet.ciiva.com/16351/bm02b-srss-tb-lf-sn-16351949.pdf?src-supplier=Future+Electronics; Supplier Part Number 1: 455-1788-1-ND
footprint BM02B-SRSS-TB(LF)(SN) (JST 1.0 mm pitch connector)
pins: 1, 2
text: Цепь; Конт.; PIN1; PIN2

## BM03B-SRSS-TB(LF)(SN)
designator XP?  (value not drawn)
CONN HEADER SMD 3POS 1MM; Manufacturer: JST; Number of Positions: 3; Connector Type: Male Pin; Current Rating: 1A; Contact Resistance: 20mR; Voltage Rating (AC): 50V; Insulation Resistance: 100MR; Gender: Male; Pitch: 0.039inch; Supplier 1: Digi-Key; Manufacturer Part Number: BM03B-SRSS-TB(LF)(SN); RoHS: Yes; Category: Headers and Wire Housings; Stock 1: 33942; Pricing 1: 1=0,54000, 10=0,50500, 100=0,38700, 500=0,33652 (USD); Mount: Surface Mount; Color: Natural; Contact Plating: Tin,Lead; Contact Material: Copper Alloy; Housing Color: Natural; Housing Material: Nylon; Material: Polyamide; Min Operating Temperature: -25°C; Max Operating Temperature: 85°C; Number of Rows: 1; Packaging: Tape and Reel; Termination: Solder; Number of Contacts: 3; Lead Pitch: 1mm; Lead Free: Lead Free; REACH SVHC: No SVHC; Flammability Rating: UL94 V-0; ComponentLink1URL: http://www.farnell.com/datasheets/2082363.pdf?src-supplier=Farnell; ComponentLink1Description: http://www.farnell.com/datasheets/2082363.pdf?src-supplier=Farnell; ComponentLink2URL: http://www.farnell.com/datasheets/91630.pdf?src-supplier=Element14; ComponentLink2Description: http://www.farnell.com/datasheets/91630.pdf?src-supplier=Element14; ComponentLink3URL: http://www.jst-mfg.com/product/pdf/eng/eSR.pdf?src-supplier=Future+Electronics; ComponentLink3Description: http://www.jst-mfg.com/product/pdf/eng/eSR.pdf?src-supplier=Future+Electronics; ComponentLink4URL: http://www.jst-mfg.com/product/pdf/eng/eSR.pdf?src-supplier=Digi-Key; ComponentLink4Description: http://www.jst-mfg.com/product/pdf/eng/eSR.pdf?src-supplier=Digi-Key; Supplier Part Number 1: 455-1789-1-ND
footprint BM03B-SRSS-TB(LF)(SN) (JST 1.0 mm pitch connector)
pins: 1, 2, 3
text: Цепь; Конт.; PIN1; PIN2; PIN3

## BM04B-SRSS-TB(LF)(SN)
designator XP?  (value not drawn)
CONN HEADER SMD 4POS 1MM; Manufacturer: JST; Number of Positions: 4; Connector Type: Male Pin; Current Rating: 1A; Contact Resistance: 40mR; Voltage Rating (AC): 50V; Insulation Resistance: 100MR; Gender: Male; Pitch: 0.039inch; Supplier 1: Digi-Key; Manufacturer Part Number: BM04B-SRSS-TB(LF)(SN); RoHS: Yes; Category: Connectors; Stock 1: 28453; Pricing 1: 1=0,63000, 10=0,59200, 100=0,45400, 500=0,39480 (USD); Mount: Surface Mount; Contact Plating: Tin,Lead,Copper; Contact Material: Copper Alloy; Color: Natural; Housing Color: Beige; Housing Material: Polyamide; Material: Polyamide; Min Operating Temperature: -25°C; Max Operating Temperature: 85°C; Number of Rows: 1; Termination: Solder; Packaging: Tape and Reel; Number of Contacts: 4; Orientation: Straight; Max Current Rating: 1A; Max Voltage Rating (AC): 50V; Max Voltage Rating (DC): 50V; Length: 6mm; Lead Pitch: 1mm; Depth: 2.9mm; Lead Free: Lead Free; REACH SVHC: No SVHC; Flammability Rating: UL94 V-0; ComponentLink1URL: https://datasheet.ciiva.com/26894/getdatasheetpartid-690899-26894827.pdf?src-supplier=Verical; ComponentLink1Description: https://datasheet.ciiva.com/26894/getdatasheetpartid-690899-26894827.pdf?src-supplier=Verical; ComponentLink2URL: https://datasheet.ciiva.com/26924/getdatasheetpartid-708793-26924043.pdf?src-supplier=Verical; ComponentLink2Description: https://datasheet.ciiva.com/26924/getdatasheetpartid-708793-26924043.pdf?src-supplier=Verical; ComponentLink3URL: https://datasheet.ciiva.com/16211/esr-16211085.pdf?src-supplier=Future+Electronics; ComponentLink3Description: https://datasheet.ciiva.com/16211/esr-16211085.pdf?src-supplier=Future+Electronics; Supplier Part Number 1: 455-1790-1-ND
footprint BM04B-SRSS-TB(LF)(SN) (JST 1.0 mm pitch connector)
pins: 1, 2, 3, 4
text: Цепь; Конт.; PIN1; PIN2; PIN3; PIN4

## BM06B-SRSS-TB(LF)(SN)
designator XP?  (value not drawn)
1 mm Pitch 6 Position SMT Single Row Top Entry Shrouded Header; Manufacturer: JST; Number of Positions: 6; Connector Type: Male Pin; Contact Resistance: 20mR; Current Rating: 1A; Voltage Rating (AC): 50V; Insulation Resistance: 100MR; Gender: Male; Pitch: 0.039inch; Supplier 1: Digi-Key; Manufacturer Part Number: BM06B-SRSS-TB(LF)(SN); RoHS: Yes; Category: Connectors; Stock 1: 15679; Pricing 1: 1=0,76000, 10=0,67200, 100=0,57970, 500=0,47428 (USD); Mount: Surface Mount; Contact Plating: Tin,Lead; Contact Material: Copper Alloy; Color: Natural; Housing Color: Natural; Housing Material: Nylon; Material: Polyamide; Min Operating Temperature: -25°C; Max Operating Temperature: 85°C; Number of Rows: 1; Packaging: Tape and Reel; Termination: Solder; Number of Contacts: 6; Orientation: Straight; Voltage Rating: 50V; Lead Pitch: 1mm; Lead Free: Lead Free; REACH SVHC: No SVHC; Flammability Rating: UL94 V-0; ComponentLink1URL: https://datasheet.ciiva.com/11752/0900766b80849807-11752119.pdf?src-supplier=RSComponents; ComponentLink1Description: https://datasheet.ciiva.com/11752/0900766b80849807-11752119.pdf?src-supplier=RSComponents; ComponentLink2URL: https://datasheet.ciiva.com/8052/1393414-8052086.pdf?src-supplier=Element14; ComponentLink2Description: https://datasheet.ciiva.com/8052/1393414-8052086.pdf?src-supplier=Element14; ComponentLink3URL: https://datasheet.ciiva.com/712/esr-712587.pdf?src-supplier=Digi-Key; ComponentLink3Description: https://datasheet.ciiva.com/712/esr-712587.pdf?src-supplier=Digi-Key; ComponentLink4URL: https://datasheet.ciiva.com/712/esr-712588.pdf?src-supplier=Digi-Key; ComponentLink4Description: https://datasheet.ciiva.com/712/esr-712588.pdf?src-supplier=Digi-Key; ComponentLink5URL: https://datasheet.ciiva.com/730/esr-730652.pdf?src-supplier=Digi-Key; ComponentLink5Description: https://datasheet.ciiva.com/730/esr-730652.pdf?src-supplier=Digi-Key; ComponentLink6URL: https://datasheet.ciiva.com/16419/esr-16419212.pdf?src-supplier=Future+Electronics; ComponentLink6Description: https://datasheet.ciiva.com/16419/esr-16419212.pdf?src-supplier=Future+Electronics; Supplier Part Number 1: 455-1792-1-ND
footprint BM06B-SRSS-TB(LF)(SN) (JST 1.0 mm pitch connector)
pins: 1, 2, 3, 4, 5, 6
text: Цепь; Конт.; PIN1; PIN2; PIN3; PIN4; PIN5; PIN6

## BM12B-SRSS-TB(LF)(SN)
designator XP?  (value not drawn)
12 Positions Header, Shrouded Connector 0.039" (1.00mm) Surface Mount Tin; Manufacturer: JST; Number of Positions: 12; Connector Type: Male Pin; Pitch: 0.039inch; Supplier 1: Digi-Key; Manufacturer Part Number: BM12B-SRSS-TB(LF)(SN); RoHS: Yes; Category: Connectors; Stock 1: 7820; Pricing 1: 1=1,20000, 10=1,05600, 100=0,91070, 500=0,74512 (USD); Mount: Surface Mount; Color: Natural; Contact Plating: Tin; Contact Material: Copper Alloy; Housing Color: Natural; Housing Material: Nylon; Number of Rows: 1; Packaging: Tape and Reel; Termination: Solder; Number of Contacts: 12; Lead Free: Lead Free; ComponentLink1URL: https://datasheet.ciiva.com/11752/0900766b8063507b-11752074.pdf?src-supplier=RSComponents; ComponentLink1Description: https://datasheet.ciiva.com/11752/0900766b8063507b-11752074.pdf?src-supplier=RSComponents; ComponentLink2URL: https://datasheet.ciiva.com/16420/bm12b-srss-tblfsn-16420661.pdf?src-supplier=Future+Electronics; ComponentLink2Description: https://datasheet.ciiva.com/16420/bm12b-srss-tblfsn-16420661.pdf?src-supplier=Future+Electronics; ComponentLink3URL: https://datasheet.ciiva.com/730/esr-730620.pdf?src-supplier=Digi-Key; ComponentLink3Description: https://datasheet.ciiva.com/730/esr-730620.pdf?src-supplier=Digi-Key; ComponentLink4URL: https://datasheet.ciiva.com/712/esr-712686.pdf?src-supplier=Digi-Key; ComponentLink4Description: https://datasheet.ciiva.com/712/esr-712686.pdf?src-supplier=Digi-Key; ComponentLink5URL: https://datasheet.ciiva.com/712/esr-712687.pdf?src-supplier=Digi-Key; ComponentLink5Description: https://datasheet.ciiva.com/712/esr-712687.pdf?src-supplier=Digi-Key; Supplier Part Number 1: 455-1798-1-ND
footprint BM12B-SRSS-TB(LF)(SN) (JST 1.0 mm pitch connector)
pins: 1 SIG, 2 SEL, 3 GND, 4 VDD, 5 VREF, 6 SI, 7 CLK, 8 ILED, 9 LEDB, 10 LEDG, 11 LEDR, 12 GND
text: Цепь; Конт.

## BMI-S-202-C
designator S?  (value not drawn)
EMI Shield Крышка; PartNo: BMI-S-202-C; Supplier 1: Digi-Key; Supplier Part Number 1: 903-1014-ND
pins: 1 GND

## BMI-S-202-F
designator S?  (value not drawn)
BOARD SHIELD .65X.65" FRAME; Manufacturer: Laird; PartNo: BMI-S-202-F; Supplier 1: Digi-Key; Supplier Part Number 1: 903-1051-1-ND; Manufacturer Part Number: BMI-S-202-F; Stock 1: 112335; Pricing 1: 1=1.8, 10=1.622, 25=1.448, 100=1.3032, 250=1.15844 (USD); Mount: Solder; Colour: Grey; Material: Aluminium; Package Quantity: 700; Packaging: Tape and Reel; Length: 16.5mm; Width: 16.5mm; Depth: 3.6mm; REACH SVHC: Unknown; ComponentLink1URL: http://assets.lairdtech.com/home/brandworld/files/Board%20Level%20Shields%20Catalog%20Download.pdf; ComponentLink1Description: http://assets.lairdtech.com/home/brandworld/files/Board%20Level%20Shields%20Catalog%20Download.pdf
footprint BMI-S-202-F (EMI Shield)
pins: 1 GND

## CC0603
designator C?  value 10  (hidden comment: CC0603)
Конденсатор 0.6х0.3 мм; Voltage: *; Type: *; PartNo: *; Supplier Part Number 1: *; Supplier 1: *; РКД Наименование: *; Manufacturer: *; Manufacturer Part Number: *
footprint CAPC0603X02N (Chip Capacitor, 2-Leads, Body 0.60x0.30mm, IPC Medium Density)
pins: 1, 2